# Altium schematic symbol library LIB_TEMP_S7CAS_SCH.SchLib: 4 symbols
Pins are listed as number, name and electrical type; pins without a type are passive.

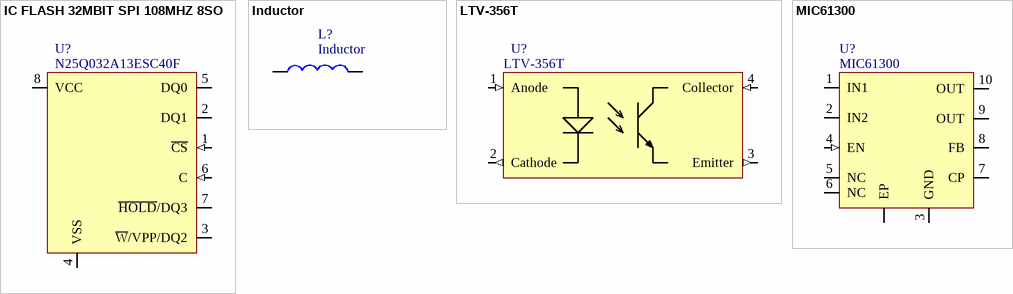
[diagram p0: symbols IC FLASH 32MBIT SPI 108MHZ 8SO to MIC61300]

## IC FLASH 32MBIT SPI 108MHZ 8SO
designator U?, comment N25Q032A13ESC40F
N25Q032A - 32Mb, 3V, Multiple I/O Serial Flash Memory - 8-SOIC (0.209", 5.30mm Width); GRAMS Lib Spec: 2.7; HelpURL: https://www.alliancememory.com/wp-content/uploads/pdf/micron/Micron_Datasheet_N25Q032A_RevJ.pdf
footprint SOIC127P790X216-8N (SOIC, 8-Leads, Body 5.29x5.29mm, Pitch 1.27mm, IPC Medium Density)
pins: 1 ~{CS} (in) "Chip select", 2 DQ1 (io) "Serial data", 3 ~{W}/VPP/DQ2 (io) "Write protect", 4 VSS "Ground", 5 DQ0 (io) "Serial data", 6 C (in) "Clock", 7 ~{HOLD}/DQ3 (io) "Hold", 8 VCC (power) "Device core power supply"

## Inductor
designator L?  value 50n
IND PWR BEAD 50NH 48A SMD; GRAMS Lib Spec: 2.7; HelpURL: https://productfinder.pulseelectronics.com/api/open/part-attachments/datasheet/pa5190.500hlt
footprint INDM5250X66N (Molded Inductor, 2-Leads, Body 5.22x5.03mm, IPC Medium Density)
pins: 1, 2

## LTV-356T
designator U?
LTV-356T - OPTOISOLATOR 3.75KV TRANS - 4-SOP; GRAMS Lib Spec: 2.7; HelpURL: https://optoelectronics.liteon.com/upload/download/DS70-2001-010/LTV-356T%20series%20Rev.P.PDF
footprint SOP254P700X240-4N (SOP, 4-Leads, Body 3.85x4.40mm, Pitch 2.54mm, IPC Medium Density)
pins: 1 Anode (in), 2 Cathode (out), 3 Emitter (out), 4 Collector (in)

## MIC61300
designator U?
MIC61300 - Low Input Voltage, Single-Supply / High-Current LDO - MSOP; GRAMS Lib Spec: 2.7; HelpURL: https://ww1.microchip.com/downloads/en/DeviceDoc/mic61300.pdf
footprint TSSOP50P490X104-10N (TSSOP, 10-Leads, Body 3.00x3.00mm, Pitch 0.50mm, IPC Medium Density)
pins: 1 IN1 (power), 2 IN2 (power), 3 GND, 4 EN (in), 5 NC, 6 NC, 7 CP, 8 FB, 9 OUT (power), 10 OUT (power), ?1 EP